# Altium footprint library PcbLib1.PcbLib: 3 footprints
Each footprint in its own frame and in the unit in brackets; x right, y up, seen from the top. Pads: shape width x height; smd on the part's side, far side on the other; paste and mask are expansions set on the pad; w line width, h text height; cw(c..) or ccw(c..) is an arc to the next point about the centre after c.
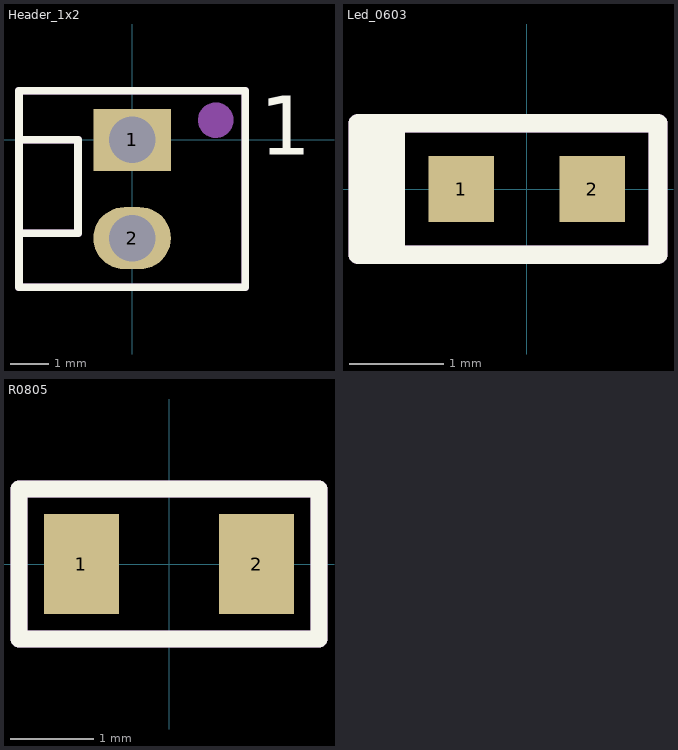
[diagram p0: the footprints below, top view; thin cyan lines are the x and y axes]

## Header_1x2 [mm]
pads (2):
  rect 2x1.6 hole 1.2: 1(0,0)
  oval 2x1.6 hole 1.2: 2(0,-2.54)
Top Overlay:
  lines w0.2: -2.921,-2.413 -1.397,-2.413 -1.397,0 -2.921,0 ; -2.921,-3.81 2.921,-3.81 2.921,1.27 -2.921,1.27 -2.921,-3.81
  text "1" at 3.302,-0.381 h1.52
Top Assembly:
  circle w0.508: c2.159,0.508 r0.203
  lines w0.2: -2.921,-2.413 -1.397,-2.413 -1.397,0 -2.921,0 ; -2.921,-3.81 2.921,-3.81 2.921,1.27 -2.921,1.27 -2.921,-3.81
  text "'.Designator'" at -6.871,-2.37 h1.2
3D body "0022272021.stp": height 11.71, standoff -3.55, extent -2.9,-3.81 2.9,1.27

## Led_0603 [mm]
pads (2):
  rect 0.7x0.7 smd: 1(-0.7,0) 2(0.7,0)
Top Overlay:
  rectangle: -1.8,-0.7 -1.3,0.7
  lines w0.2: -1.8,-0.7 -1.8,0.7 1.4,0.7 1.4,-0.7 -1.8,-0.7
Top Assembly:
  rectangle: -1.8,-0.7 -1.3,0.7
  lines w0.2: -1.8,-0.7 -1.8,0.7 1.4,0.7 1.4,-0.7 -1.8,-0.7
  text "'.Designator'" at -4.065,-0.6 h0.7
3D body "LSM0603453V--3DModel-STEP-269445.STEP": height 0.56, standoff 0.01, extent -0.8,-0.4 0.8,0.4

## R0805 [mm]
pads (2):
  rect 0.9x1.2 smd: 1(-1.05,0) 2(1.05,0)
Top Overlay:
  lines w0.2: -1.8,-0.9 1.8,-0.9 1.8,0.9 -1.8,0.9 -1.8,-0.9
Top Assembly:
  lines w0.2: -1.8,-0.9 1.8,-0.9 1.8,0.9 -1.8,0.9 -1.8,-0.9
  text "'.Designator'" at -4.065,-0.6 h0.7
3D body "AC0805FR-07360RL.STEP": height 0.61, standoff 0.01, extent -1,-0.625 1,0.625